# Altium schematic symbol library DS1307.SchLib: 1 symbol
Pins are listed as number, name and electrical type; pins without a type are passive.

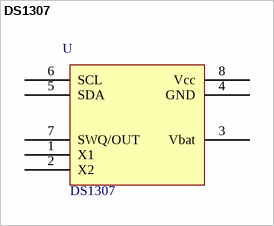
[diagram p0: symbol DS1307]

## DS1307
designator U  value DS1307  (hidden comment: *)
Manufacturer: MAXIM INTEGRATED; Manufacturer Code: DS1307ZN+; Farnell Code: 9725253; Unit Price: 4,59 €
footprint SO8
pins: 1 X1, 2 X2, 3 Vbat, 4 GND, 5 SDA, 6 SCL, 7 SWQ/OUT, 8 Vcc